# Altium footprint library 2200981671.PcbLib: 1 footprints
Each footprint in its own frame and in the unit in brackets; x right, y up, seen from the top. Pads: shape width x height; smd on the part's side, far side on the other; paste and mask are expansions set on the pad; w line width, h text height; cw(c..) or ccw(c..) is an arc to the next point about the centre after c.
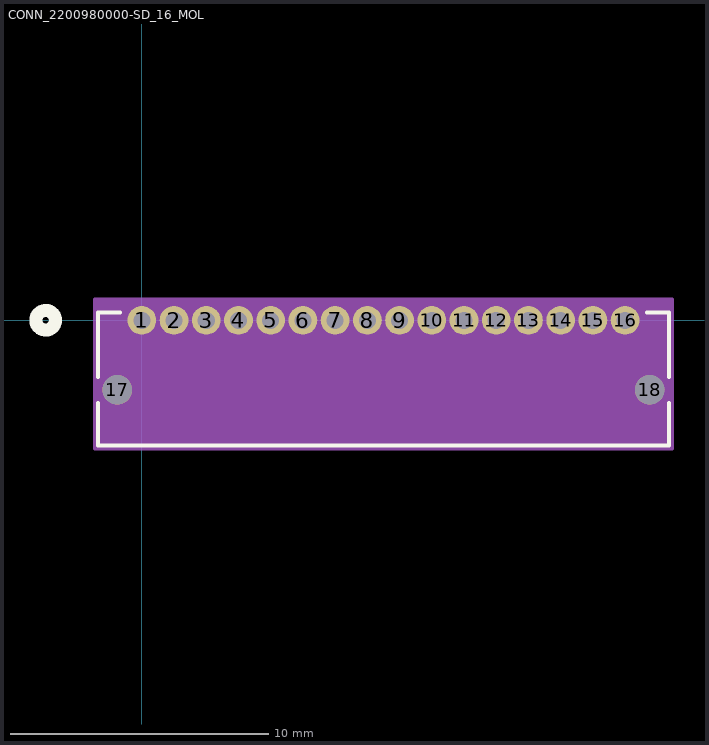
[diagram p0: the footprint, top view; thin cyan lines are the x and y axes]

## CONN_2200980000-SD_16_MOL [mil]
pads (18):
  round 44 hole 26 paste-99999 mask+0: 1(0,0) 2(49.21,0) 3(98.43,0) 4(147.64,0) 5(196.85,0) 6(246.06,0) 7(295.28,0) 8(344.49,0) 9(393.7,0) 10(442.91,0) 11(492.13,0) 12(541.34,0) 13(590.55,0) 14(639.76,0) 15(688.98,0) 16(738.19,0)
  round 45 hole 45 unplated paste-99999 mask+0: 17(-37.4,-106.3) 18(775.59,-106.3)
Top Overlay:
  circle w20: c-146.91,0 r15
  lines w6: -66.91,-126.22 -66.91,-191.11 805.09,-191.11 805.09,-126.22 ; -66.91,-86.38 -66.91,11.89 -33.02,11.89 ; 771.21,11.89 805.09,11.89 805.09,-86.38
  text ".Designator" at 231.59,-25 h50
Bottom Overlay:
  circle w20: c-146.91,0 r15
Mechanical 13:
  circle w20: c0,0 r15
  lines w1: -61.91,-186.11 -61.91,6.89 800.09,6.89 800.09,-186.11 -61.91,-186.11
  text ".Designator" at 231.59,-25 h50
Mechanical 15:
  region: 810.09,32 -71.91,32 -71.91,-196.11 810.09,-196.11
  lines w6: -71.91,-196.11 810.09,-196.11 810.09,32 -71.91,32 -71.91,-196.11
3D body "2200981671.stp": height 140.26, standoff -101.86, extent -62.01,-185.63 800.2,6.89